# Altium schematic symbol library Voltage Regulators Switchmode.SchLib: 6 symbols
Pins are listed as number, name and electrical type; pins without a type are passive.

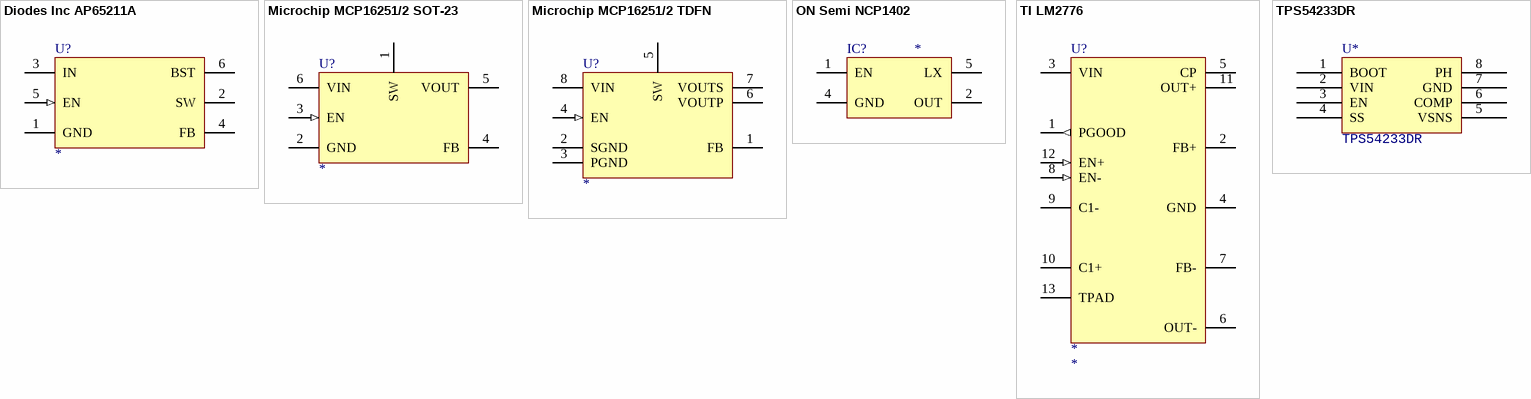
[diagram p0: symbols Diodes Inc AP65211A to TPS54233DR]

## Diodes Inc AP65211A
designator U?
pins: 1 GND (power), 2 SW, 3 IN (power), 4 FB, 5 EN (in), 6 BST (power)

## Microchip MCP16251/2 SOT-23
designator U?
Part Number: *
pins: 1 SW, 2 GND (power), 3 EN (in), 4 FB, 5 VOUT (power), 6 VIN (power)

## Microchip MCP16251/2 TDFN
designator U?
Part Number: *
pins: 1 FB, 2 SGND (power), 3 PGND (power), 4 EN (in), 5 SW, 6 VOUTP (power), 7 VOUTS (power), 8 VIN (power)

## ON Semi NCP1402
designator IC?
pins: 1 EN, 2 OUT, 4 GND, 5 LX

## TI LM2776
designator U?
TI LM2776; Output Current: *; Part Number: *
pins: 1 PGOOD (out), 2 FB+ (power) "Feedback input. Connect FB+ to an external resistor divider between OUT+ and  GND. DO NOT leave unconnected.", 3 VIN (power), 4 GND (power), 5 CP (power) "Negative unregulated output voltage", 6 OUT- (power) "Regulated negative output voltage", 7 FB- (power) "Feedback input. Connect FB– to an external resistor divider between OUT– and  GND. DO NOT leave unconnected.", 8 EN- (in) "Enable input for the charge pump and negative LDO, Active high", 9 C1- "Negative terminal for C1", 10 C1+ "Positive terminal for C1", 11 OUT+ (power) "Regulated positive output voltage", 12 EN+ (in) "Enable input for the positive LDO, Active high", 13 TPAD (power) "Thermal Pad. MUST be connected to GND"

## TPS54233DR
designator U*
pins: 1 BOOT, 2 VIN, 3 EN, 4 SS, 5 VSNS, 6 COMP, 7 GND, 8 PH